# EAGLE library part DS3231 (library Simplex-ICs)
DS3231 RTC
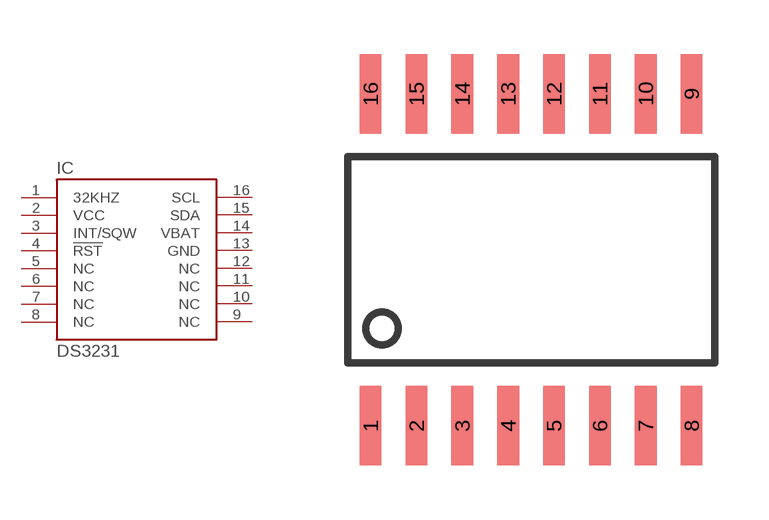
[diagram p0: symbol with the pads of SO-16; footprint SO-16]

Designator prefix IC

## DS3231  [SO-16]
1  32KHZ
2  VCC  pwr
3  INT/SQW
4  !RST
5  NC
6  NC
7  NC
8  NC
9  NC
10  NC
11  NC
12  NC
13  GND  pwr
14  VBAT
15  SDA
16  SCL

## Footprint SO-16 (pad centres in mm)
Small Outline Integrated Circuit wide
smd 0.6 x 2.2: 1 -4.445,-4.6; 2 -3.175,-4.6; 3 -1.905,-4.6; 4 -0.635,-4.6; 5 0.635,-4.6; 6 1.905,-4.6; 7 3.175,-4.6; 8 4.445,-4.6; 9 4.445,4.6; 10 3.175,4.6; 11 1.905,4.6; 12 0.635,4.6; 13 -0.635,4.6; 14 -1.905,4.6; 15 -3.175,4.6; 16 -4.445,4.6